# Altium schematic symbol library DS04-254-2-04BK-SMT-TR.SchLib: 1 symbol
Pins are listed as number, name and electrical type; pins without a type are passive.

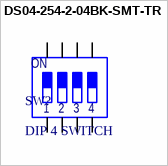
[diagram p0: symbol DS04-254-2-04BK-SMT-TR]

## DS04-254-2-04BK-SMT-TR
designator SW?, comment DIP 4 SWITCH
Manufacturer: CUI; Manufacturer Part Number: DS04-254-2-04BK-SMT-TR; Supplier 1: Digi-Key; RoHS: Yes; Stock 1: 183; Pricing 1: 1=0.66000, 10=0.63400, 25=0.61120, 100=0.52880, 250=0.48176 (USD); Supplier Part Number 1: 2223-DS04-254-2-04BK-SMT-CT-ND
footprint DS04-254-2-04BK-SMT-TR (DIP SWITCH, SPST, 2.54 PITCH, FL)
pins: 1, 2, 3, 4, 5, 6, 7, 8
text: ON